# Altium footprint library StandardFootprints.PcbLib: 3 footprints
Each footprint in its own frame and in the unit in brackets; x right, y up, seen from the top. Pads: shape width x height; smd on the part's side, far side on the other; paste and mask are expansions set on the pad; w line width, h text height; cw(c..) or ccw(c..) is an arc to the next point about the centre after c.
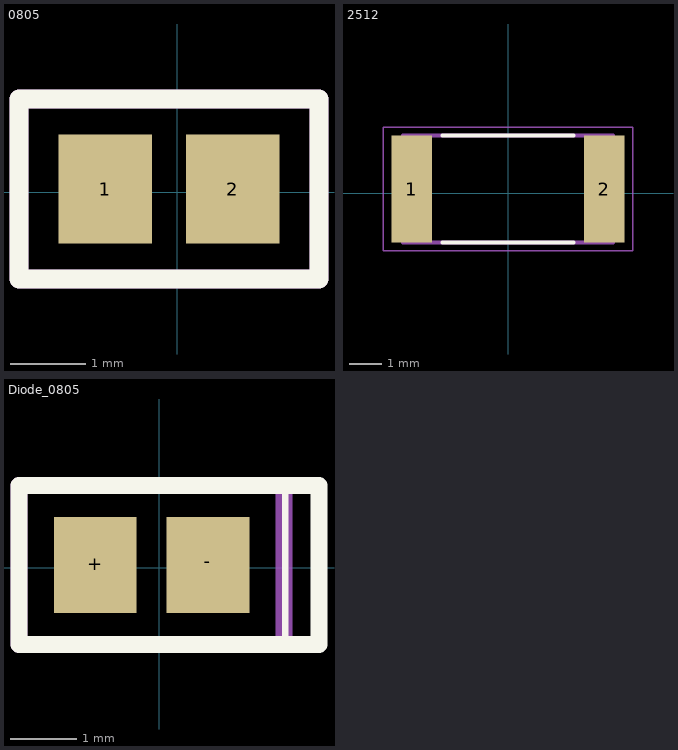
[diagram p0: the footprints below, top view; thin cyan lines are the x and y axes]

## 0805 [mm]
pads (2):
  rect 1.25x1.45 smd mask+0.06: 1(-0.963,0.042) 2(0.737,0.042)
Top Overlay:
  lines w0.254: -2.113,-1.158 1.887,-1.158 1.887,1.242 -2.113,1.242 -2.113,-1.158
Mechanical 16:
  lines w0.254: -2.113,-1.158 1.887,-1.158 1.887,1.242 -2.113,1.242 -2.113,-1.158
  text ".Designator" at -1.759,-0.471 h1
3D body "CAP_0805.step": height 1.25, standoff 0, extent -1.188,-0.658 0.962,0.742

## 2512 [mm]
pads (2):
  rect 1.26x3.32 smd: 1(-2.975,0.127) 2(2.975,0.127)
Top Overlay:
  lines w0.127: -2.02,-1.523 2.02,-1.523 ; -2.02,1.777 2.02,1.777
Mechanical 13:
  lines w0.127: -3.25,-1.523 3.25,-1.523 3.25,1.777 -3.25,1.777 -3.25,-1.523
Mechanical 15:
  lines w0.05: -3.858,-1.781 3.858,-1.781 3.858,2.035 -3.858,2.035 -3.858,-1.781

## Diode_0805 [mm]
pads (2):
  rect 1.25x1.45 smd mask+0.06: +(-0.963,0.042) -(0.737,0.042)
Top Overlay:
  lines w0.1: 1.905,-1.143 1.905,1.27
  lines w0.254: -2.113,-1.158 2.413,-1.158 2.413,1.242 -2.113,1.242 -2.113,-1.158
Mechanical 16:
  lines w0.254: -2.113,-1.158 1.887,-1.158 1.887,1.242 -2.113,1.242 -2.113,-1.158
  text ".Designator" at -1.759,-0.471 h1
3D body "CAP_0805.step": height 1.25, standoff 0, extent -1.188,-0.658 0.962,0.742